# EAGLE library part ZX4125P (library strombom)
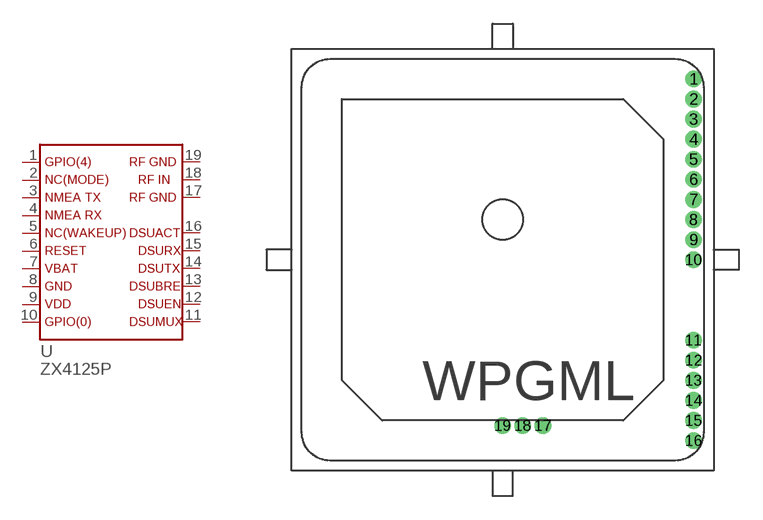
[diagram p0: symbol with the pads of ZX4125P; footprint ZX4125P]

Designator prefix -

## ZX4125P  [ZX4125P]
1  1
2  2  pas
3  3
4  4
5  5  pas
6  6  in
7  7  in
8  8  pwr
9  9  pwr
10  10
11  11  in
12  12  in
13  13  in
14  14  out
15  15  in
16  16  out
17  17  pas
18  18  pas
19  19  pas

## Footprint ZX4125P (pad centres in mm)
drill 0.55 pad 1.016 round: 1 12.065,11.43; 2 12.065,10.16; 3 12.065,8.89; 4 12.065,7.62; 5 12.065,6.35; 6 12.065,5.08; 7 12.065,3.81; 8 12.065,2.54; 9 12.065,1.27; 10 12.065,0; 11 12.065,-5.08; 12 12.065,-6.35; 13 12.065,-7.62; 14 12.065,-8.89; 15 12.065,-10.16; 16 12.065,-11.43; 17 2.54,-10.477; 18 1.27,-10.477; 19 0,-10.477